# Altium schematic symbol library Schlib1.SchLib: 1 symbol
Pins are listed as number, name and electrical type; pins without a type are passive.

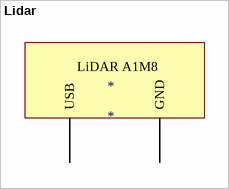
[diagram p0: symbol Lidar]

## Lidar
designator *
pins: ?1 USB, ?2 GND (power)
text: Type @ to refer to a designator or a net; LiDAR A1M8